# EAGLE library part CON-6P-TABS (library Connectors)
CONN HEADER 6 POS
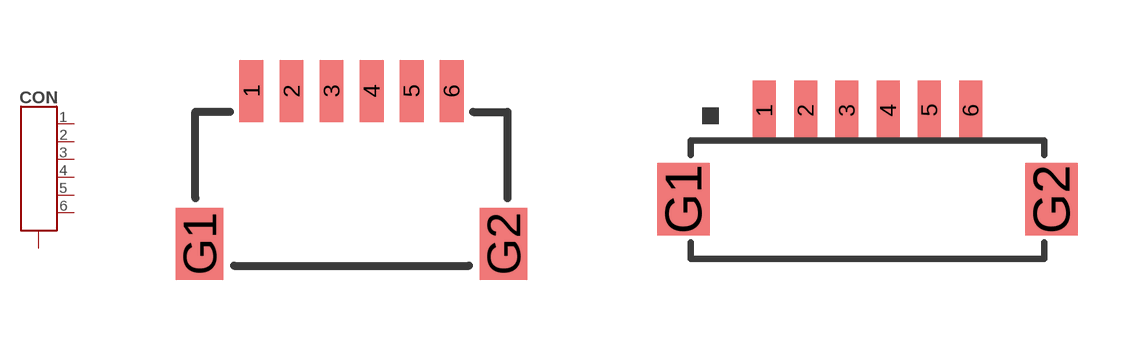
[diagram p3: symbol with the pads of SM06B; footprints SM06B, DF13C-6P-1.25V]

Designator prefix CON

## CON-6P-TABS-SM06B (DIGIKEY#: 455-1806-1-ND; MANF: JST Sales America Inc; MANF#: SM06B-SRSS-TB(LF)(SN))  [SM06B]
1  1  pas
2  2  pas
3  3  pas
4  4  pas
5  5  pas
6  6  pas
G1  G1  pas
G2  G1  pas

## CON-6P-TABS-DF13 (DIGIKEY#: H3423-ND; MANF: Hirose Electric Co Ltd; MANF#: DF13C-6P-1.25V(20))  [DF13C-6P-1.25V]
Pads as for SM06B

## CON-6P-TABS-JST-GH-SIDE (ENTRY: SIDE; LCSC#: C133065; MANF: JST Sales America Inc; MANF#: SM06B-GHS-TB(LF)(SN))  [SM06B-GHS-TB]
1  1  pas
2  2  pas
3  3  pas
4  4  pas
5  5  pas
6  6  pas
M$0  G1  pas
M$1  G1  pas

## CON-6P-TABS-JST-GH-TOP (ENTRY: TOP; LCSC#: C495534; MANF: JST Sales America Inc; MANF#: BM06B-GHS-TBT(LF)(SN))  [BM06B-GHS-TBT]
Pads as for SM06B-GHS-TB

## CON-6P-TABS-CLIK-MATE (MANF: Molex; MANF#: 5024430670)  [5024430670]
1  1  pas
2  2  pas
3  3  pas
4  4  pas
5  5  pas
6  6  pas
P$1  G1  pas
P$2  G1  pas

## Footprint SM06B (pad centres in mm)
smd 0.6 x 1.55: 1 -2.5,2.275; 2 -1.5,2.275; 3 -0.5,2.275; 4 0.5,2.275; 5 1.5,2.275; 6 2.5,2.275
smd 1.2 x 1.8: G1 -3.8,-1.55; G2 3.8,-1.55

## Footprint DF13C-6P-1.25V (pad centres in mm)
Single Row Straight Pin Header (SMT)
smd 0.7 x 1.8: 1 -3.125,2.17; 2 -1.875,2.17; 3 -0.625,2.17; 4 0.625,2.17; 5 1.875,2.17; 6 3.125,2.17
smd 1.6 x 2.2: G1 -5.575,-0.53; G2 5.575,-0.53

## Footprint SM06B-GHS-TB (pad centres in mm)
http://www.molex.com/pdm_docs/sd/5023860270_sd.pdf
smd 0.6 x 1.7: 1 3.125,-2.91; 2 1.875,-2.91; 3 0.625,-2.91; 4 -0.625,-2.91; 5 -1.875,-2.91; 6 -3.125,-2.91
smd 1 x 2.8: M$0 -5.075,0.19; M$1 5.075,0.19

## Footprint BM06B-GHS-TBT (pad centres in mm)
smd 0.6 x 1.7: 1 -3.125,-2.9; 2 -1.875,-2.9; 3 -0.625,-2.9; 4 0.625,-2.9; 5 1.875,-2.9; 6 3.125,-2.9
smd 1 x 2.8: M$0 -5.075,0.45; M$1 5.075,0.45

## Footprint 5024430670 (pad centres in mm)
2.00mm Pitch CLIK-Mate Wire-to-Board PCB Receptacle, Single Row, Vertical, 6 Circuits Drawing <https://www.molex.com/content/dam/molex/molex-dot-com/products/automated/en-us/salesdrawingpdf/502/502443/5024430670_sd.pdf?inline>
smd 1 x 2.9: 1 -5,0; 2 -3,0; 3 -1,0; 4 1,0; 5 3,0; 6 5,0
smd 1.8 x 3.6: P$1 -7.2,-4.65; P$2 7.2,-4.65